# EAGLE library part MAX3221EEAE (library FaBo-LevelTranslator)
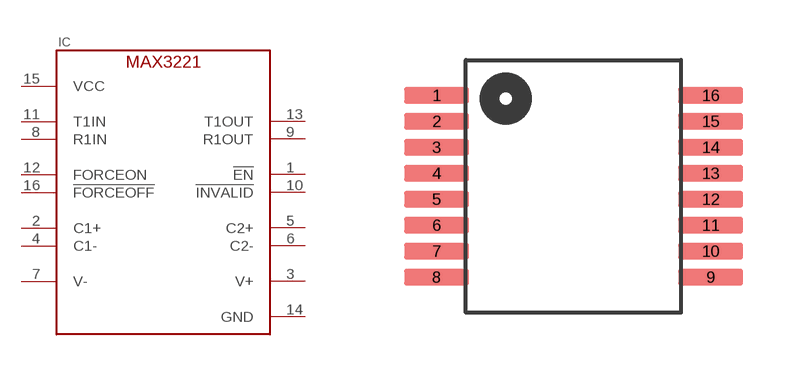
[diagram p4: symbol with the pads of SSOP-16; footprint SSOP-16]

Designator prefix IC

## MAX3221EEAE  [SSOP-16]
1  !EN
2  C1+
3  V+
4  C1-
5  C2+
6  C2-
7  V-
8  R1IN
9  R1OUT
10  !INVALID
11  T1IN
12  FORCEON
13  T1OUT
14  GND
15  VCC
16  !FORCEOFF

## Footprint SSOP-16 (pad centres in mm)
smd 1.63 x 0.42: 1 -3.425,2.275; 2 -3.425,1.625; 3 -3.425,0.975; 4 -3.425,0.325; 5 -3.425,-0.325; 6 -3.425,-0.975; 7 -3.425,-1.625; 8 -3.425,-2.275; 9 3.425,-2.275; 10 3.425,-1.625; 11 3.425,-0.975; 12 3.425,-0.325; 13 3.425,0.325; 14 3.425,0.975; 15 3.425,1.625; 16 3.425,2.275